# EAGLE library part PLD-08 (library growbot)
PLD-08 разъем для нового jtag
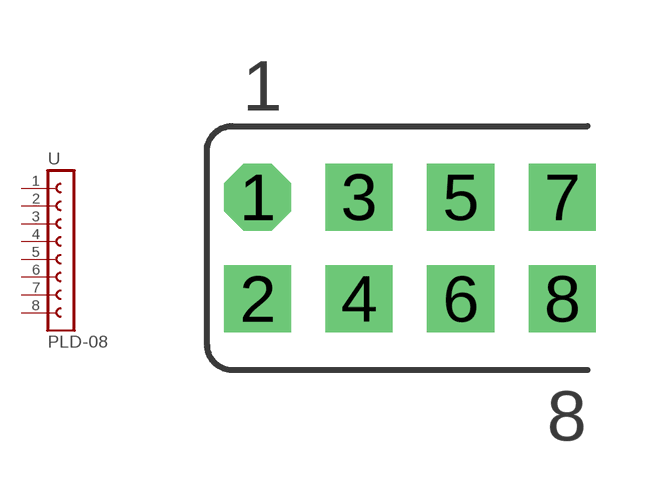
[diagram p18: symbol with the pads of PLD08; footprint PLD08]

Designator prefix -

## PLD-08  [PLD08]
1  1  pas
2  2  pas
3  3  pas
4  4  pas
5  5  pas
6  6  pas
7  7  pas
8  8  pas

## Footprint PLD08 (pad centres in mm)
drill 1 pad 1.676 octagon: 1 -3.81,1.27
drill 1 pad 1.676 square: 2 -3.81,-1.27; 3 -1.27,1.27; 4 -1.27,-1.27; 5 1.27,1.27; 6 1.27,-1.27; 7 3.81,1.27; 8 3.81,-1.27